# Altium footprint library SOT65P210X110-5N.PcbLib: 1 footprints
Each footprint in its own frame and in the unit in brackets; x right, y up, seen from the top. Pads: shape width x height; smd on the part's side, far side on the other; paste and mask are expansions set on the pad; w line width, h text height; cw(c..) or ccw(c..) is an arc to the next point about the centre after c.
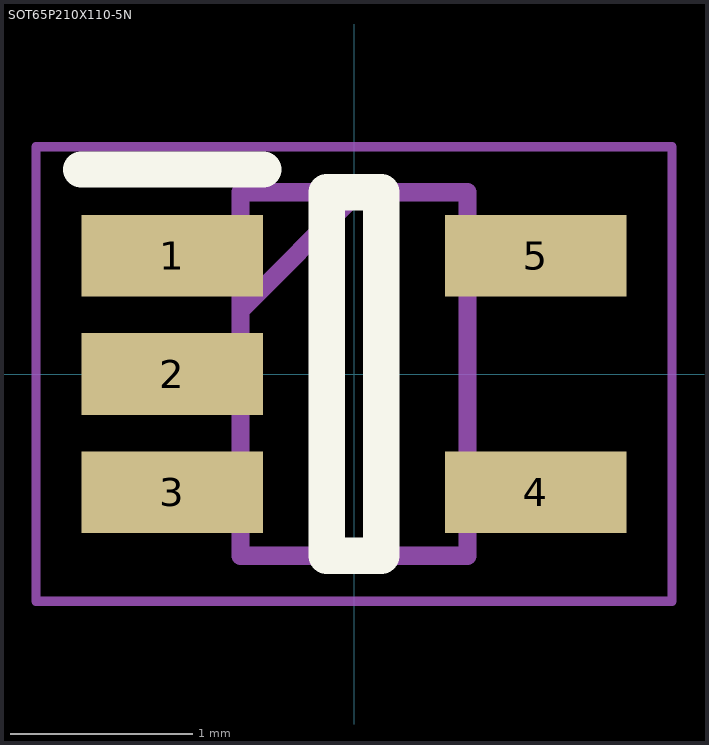
[diagram p0: the footprint, top view; thin cyan lines are the x and y axes]

## SOT65P210X110-5N [mm]
pads (5):
  rect 1x0.45 smd: 1(-1,0.65) 2(-1,0) 3(-1,-0.65) 4(1,-0.65) 5(1,0.65)
Top Overlay:
  lines w0.2: -1.5,1.125 -0.5,1.125 ; -0.15,-1 0.15,-1 0.15,1 -0.15,1 -0.15,-1
Mechanical 15:
  lines w0.1: -0.625,0.35 0.025,1 ; -0.625,-1 0.625,-1 0.625,1 -0.625,1 -0.625,-1
Mechanical 20:
  lines w0.05: -1.75,-1.25 1.75,-1.25 1.75,1.25 -1.75,1.25 -1.75,-1.25